# Altium schematic symbol library MergenElektronik_Regulators_Linears.SchLib: 5 symbols
Pins are listed as number, name and electrical type; pins without a type are passive.

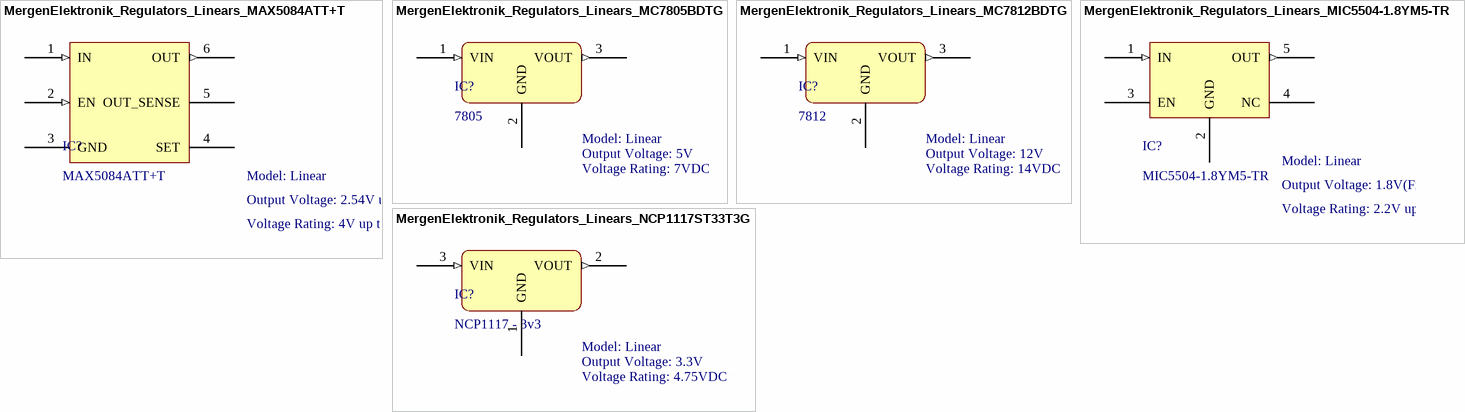
[diagram p0: symbols MergenElektronik_Regulators_Linears_MAX5084ATT+T to MergenElektronik_Regulators_Linears_NCP1117ST33T3G]

## MergenElektronik_Regulators_Linears_MAX5084ATT+T
designator IC?, comment MAX5084ATT+T  Model: Linear  Output Voltage: 2.54V up to 11V  Voltage Rating: 4V up to 65V
Mergen Elektronik - Regulators - Linears - MAX5084ATT+T; Manufacturer: Analog Devices Inc./Maxim Integrated; Current Rating: 200mA; Temperature: -40°C up to +125°C; Value: MAX5084ATT+T; Mounting Type: Surface Mount; Digi-Key Number: MAX5084ATT+TR-ND; Manufacturer Number: MAX5084ATT+T; Mouser Number: 700-MAX5084ATTT; Farnell Number: 2514348; Package: 6-TDFN; Supplier 1: Digikey; Supplier 2: Mouser; Supplier Part Number 1: MAX5084ATT+CT-ND; Supplier Part Number 2: 700-MAX5084ATTT
footprint MergenElektronik_Regulators_Linears_6-TDFN (6-TDFN)
pins: 1 IN (in), 2 EN (in), 3 GND (power), 4 SET, 5 OUT_SENSE, 6 OUT (out)

## MergenElektronik_Regulators_Linears_MC7805BDTG
designator IC?, comment 7805  Voltage Rating: 7VDC up to 36V  Model: Linear  Output Voltage: 5V
Mergen Elektronik - Regulators - Linears - MC7805BDTG; Manufacturer: onsemi; Current Rating: 1A; Temperature: -40°C up to +125°C; Value: MC7805BDTG; Mounting Type: Surface Mount; Digi-Key Number: MC7805BDTGOS-ND; Manufacturer Number: MC7805BDTG; Mouser Number: 863-MC7805BDTG; Özdisan Number: MC7805BDTG; Farnell Number: 1652336; Package: DPAK; Supplier 1: Digi-Key; Supplier 2: Mouser; Supplier Part Number 1: MC7805BDTGOS-ND; Supplier Part Number 2: 863-MC7805BDTG
footprint MergenElektronik_Regulators_Linears_DPAK (DPAK)
pins: 1 VIN (in), 2 GND (power), 3 VOUT (out)

## MergenElektronik_Regulators_Linears_MC7812BDTG
designator IC?, comment 7812  Voltage Rating: 14VDC up to 36V  Model: Linear  Output Voltage: 12V
Mergen Elektronik - Regulators - Linears - MC7812BDTG; Manufacturer: onsemi; Manufacturer Number: MC7805BDTG; Current Rating: 1A; Temperature: -40°C up to +125°C; Value: MC7812BDTG; Mounting Type: Surface Mount; Digi-Key Number: MC7812BDTGOS-ND; Mouser Number: 863-MC7812BDTG; Farnell Number: 2318480; Package: DPAK; Supplier 1: Digi-Key; Supplier 2: Mouser; Supplier Part Number 1: MC7812BDTGOS-ND; Supplier Part Number 2: 863-MC7812BDTG
footprint MergenElektronik_Regulators_Linears_DPAK (DPAK)
pins: 1 VIN (in), 2 GND (power), 3 VOUT (out)

## MergenElektronik_Regulators_Linears_MIC5504-1.8YM5-TR
designator IC?, comment MIC5504-1.8YM5-TR  Model: Linear  Output Voltage: 1.8V(Fixed)  Voltage Rating: 2.2V up to 5.5V
Mergen Elektronik - Regulators - Linears - MIC5504-1.8YM5-TR; Manufacturer: Microchip Technology; Current Rating: 300mA; Temperature: -40°C up to +125°C; Value: MIC5504-1.8YM5-TR; Mounting Type: Surface Mount; Digi-Key Number: 576-4879-2-ND; Manufacturer Number: MIC5504-1.8YM5-TR; Mouser Number: 998-MIC5504-1.8YM5TR; Farnell Number: 2809977; Package: SOT-23-5; Supplier 1: Digikey; Supplier 2: Mouser; Supplier Part Number 1: 576-4879-2-ND; Supplier Part Number 2: 998-MIC5504-1.8YM5TR
footprint MergenElektronik_Regulators_Linears_SOT-23-5 (SOT-23-5)
pins: 1 IN (in), 2 GND (power), 3 EN, 4 NC, 5 OUT (out)

## MergenElektronik_Regulators_Linears_NCP1117ST33T3G
designator IC?, comment NCP1117 - 3v3  Voltage Rating: 4.75VDC up to 10V  Model: Linear  Output Voltage: 3.3V
Mergen Elektronik - Regulators - Linears - NCP1117ST33T3G; Manufacturer: onsemi; Current Rating: 1A; Temperature: 0°C up to +125°C; Value: NCP1117ST33T3G; Mounting Type: Surface Mount; Digi-Key Number: NCP1117ST33T3GOSCT-ND; Manufacturer Number: NCP1117ST33T3G; Mouser Number: 863-NCP1117ST33T3G; Özdisan Number: NCP1117ST33T3G; Supplier 1: Digi-Key; Supplier 2: Mouser; Supplier Part Number 1: NCP1117ST33T3GOSCT-ND; Supplier Part Number 2: 863-NCP1117ST33T3G; Package: SOT-223
footprint MergenElektronik_Regulators_Linears_SOT223 (SOT223)
pins: 1 GND (power), 2 VOUT (out), 3 VIN (in)